# Altium footprint library SHDR4W64P0X250_1X4_950X580X1210P.PcbLib: 1 footprints
Each footprint in its own frame and in the unit in brackets; x right, y up, seen from the top. Pads: shape width x height; smd on the part's side, far side on the other; paste and mask are expansions set on the pad; w line width, h text height; cw(c..) or ccw(c..) is an arc to the next point about the centre after c.
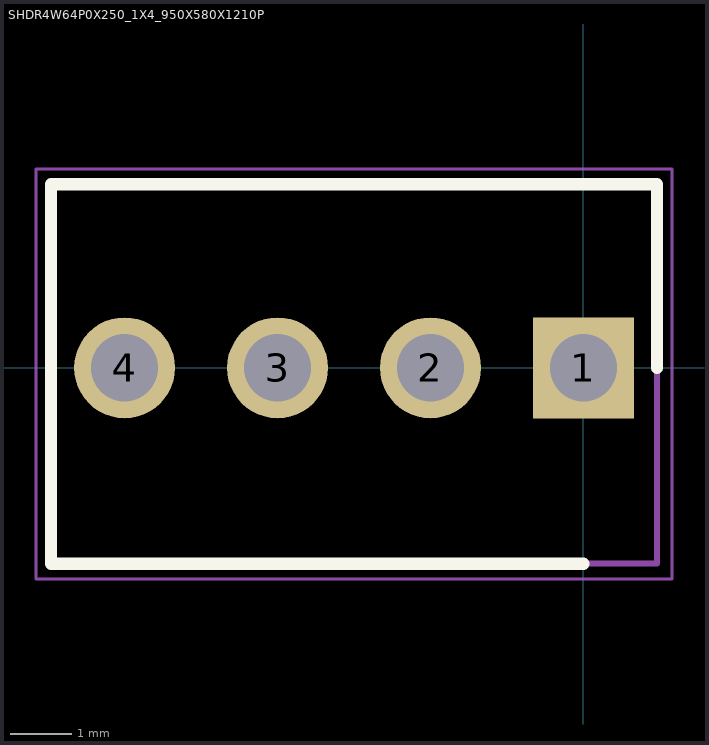
[diagram p0: the footprint, top view; thin cyan lines are the x and y axes]

## SHDR4W64P0X250_1X4_950X580X1210P [mm]
pads (4):
  rect 1.65x1.65 / inner round 1.65 / far side rect 1.65x1.65 hole 1.1: 1(0,0)
  round 1.65 hole 1.1: 2(-2.5,0) 3(-5,0) 4(-7.5,0)
Top Overlay:
  lines w0.2: 0,-3.2 -8.7,-3.2 -8.7,3 1.2,3 1.2,0
Mechanical 15:
  lines w0.1: -8.7,-3.2 1.2,-3.2 1.2,3 -8.7,3 -8.7,-3.2
Mechanical 20:
  lines w0.05: -8.95,-3.45 1.45,-3.45 1.45,3.25 -8.95,3.25 -8.95,-3.45